# Altium schematic symbol library 1-826631-0.SchLib: 2 symbols
Pins are listed as number, name and electrical type; pins without a type are passive.

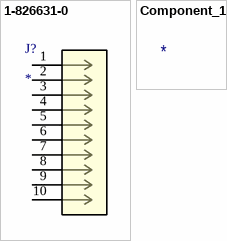
[diagram p0: symbols 1-826631-0 to Component_1]

## 1-826631-0
designator J?
No Description Available; Mfr_Name: TE Connectivity; RefDes: RefDes; Type: Type
footprint CON10_1X10_P100RM_HDR_TYC
pins: 1, 2, 3, 4, 5, 6, 7, 8, 9, 10

## Component_1
designator *  (value not drawn)